# Altium schematic symbol library TPS75233QPWPREP.SchLib: 1 symbol
Pins are listed as number, name and electrical type; pins without a type are passive.

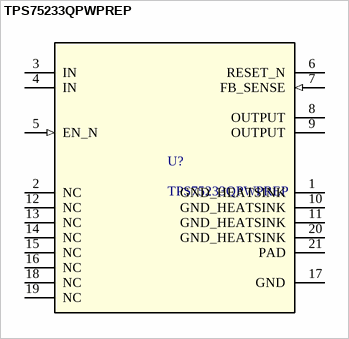
[diagram p0: symbol TPS75233QPWPREP]

## TPS75233QPWPREP
designator U?
Enhanced product, fast transient response voltage regular 20-HTSSOP -40 to 125; Manufacturer_Name: Texas Instruments; TYPE: TYPE; RefDes: RefDes; Copyright: Copyright (C) 2026 Ultra Librarian. All rights reserved.; Manufacturer_Part_Number: TPS75233QPWPREP; Datasheet: https://www.ti.com/lit/gpn/tps75233-ep
footprint PWP0020C_L
pins: 1 GND_HEATSINK (power), 2 NC, 3 IN (power), 4 IN (power), 5 EN_N (in), 6 RESET_N (hiz), 7 FB_SENSE (in), 8 OUTPUT (power), 9 OUTPUT (power), 10 GND_HEATSINK (power), 11 GND_HEATSINK (power), 12 NC, 13 NC, 14 NC, 15 NC, 16 NC, 17 GND (power), 18 NC, 19 NC, 20 GND_HEATSINK (power), 21 PAD